# Altium footprint library SKY13418-485LF.PcbLib: 1 footprints
Each footprint in its own frame and in the unit in brackets; x right, y up, seen from the top. Pads: shape width x height; smd on the part's side, far side on the other; paste and mask are expansions set on the pad; w line width, h text height; cw(c..) or ccw(c..) is an arc to the next point about the centre after c.
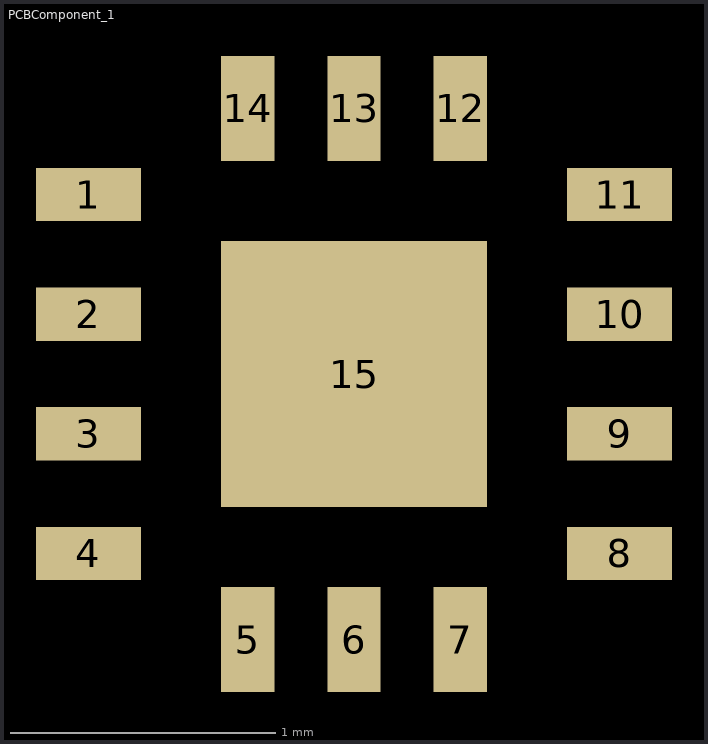
[diagram p0: the footprint, top view; thin cyan lines are the x and y axes]

## PCBComponent_1 [mm]
pads (15):
  rect 0.395x0.2 smd mask+0.025: 1(0.5,-0.825) 2(0.5,-1.275) 3(0.5,-1.725) 4(0.5,-2.175) 8(2.5,-2.175) 9(2.5,-1.725) 10(2.5,-1.275) 11(2.5,-0.825)
  rect 0.2x0.395 smd mask+0.025: 5(1.1,-2.5) 6(1.5,-2.5) 7(1.9,-2.5) 12(1.9,-0.5) 13(1.5,-0.5) 14(1.1,-0.5)
  rect 1x1 smd mask+0.025: 15(1.5,-1.5)
3D body: height 0.55, standoff 0.02, extent 0.5,-2.5 2.5,-0.5